# EAGLE library part A6S-4102-PH (library SamacSys_Parts)
DIP Switches / SIP Switches Dipswitch Tape & Reel Source: Datasheet <https://www.omron.com/ecb/products/pdf/en-a6s.pdf>
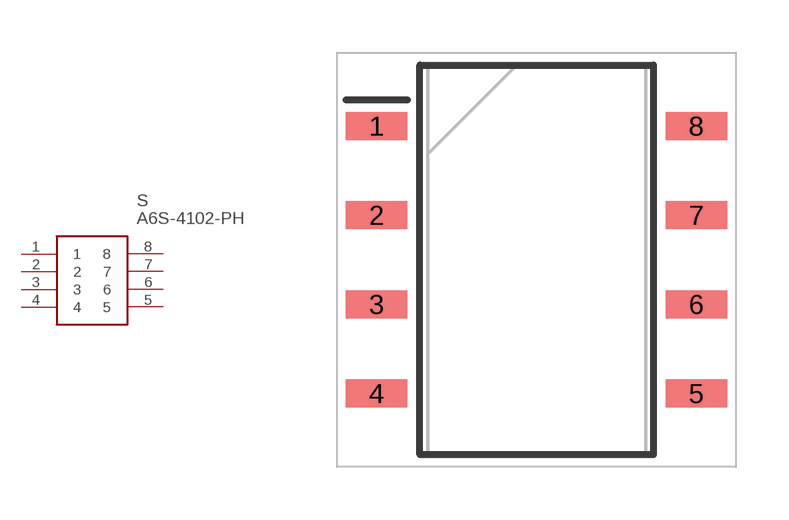
[diagram p158: symbol with the pads of SOP254P980X380-8N; footprint SOP254P980X380-8N]

Designator prefix S

## A6S-4102-PH (DESCRIPTION: DIP Switches / SIP Switches Dipswitch Tape & Reel; HEIGHT: 3.8mm; MANUFACTURER_NAME: Omron Electronics; MANUFACTURER_PART_NUMBER: A6S-4102-PH; MOUSER_PART_NUMBER: 653-A6S-4102-PH; MOUSER_PRICE-STOCK: https://www.mouser.co.uk/ProductDetail/Omron-Electronics/A6S-4102-PH?qs=ZP3UR5XsUoe%2FjAeze1ZGqw%3D%3D)  [SOP254P980X380-8N]
1  1
2  2
3  3
4  4
5  5
6  6
7  7
8  8

## Footprint SOP254P980X380-8N (pad centres in mm)
A6S-4102
smd 1.75 x 0.8: 1 -4.55,3.81; 2 -4.55,1.27; 3 -4.55,-1.27; 4 -4.55,-3.81; 5 4.55,-3.81; 6 4.55,-1.27; 7 4.55,1.27; 8 4.55,3.81